# Altium schematic symbol library NORFlash-W25Q16JV.SchLib: 1 symbol
Pins are listed as number, name and electrical type; pins without a type are passive.

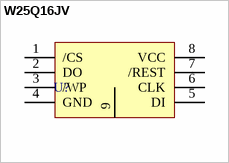
[diagram p0: symbol W25Q16JV]

## W25Q16JV
designator U?
pins: 1 /CS, 2 DO, 3 /WP, 4 GND, 5 DI, 6 CLK, 7 /REST, 8 VCC, 9